# Altium footprint library InductorsFootprint.PcbLib: 6 footprints
Each footprint in its own frame and in the unit in brackets; x right, y up, seen from the top. Pads: shape width x height; smd on the part's side, far side on the other; paste and mask are expansions set on the pad; w line width, h text height; cw(c..) or ccw(c..) is an arc to the next point about the centre after c.
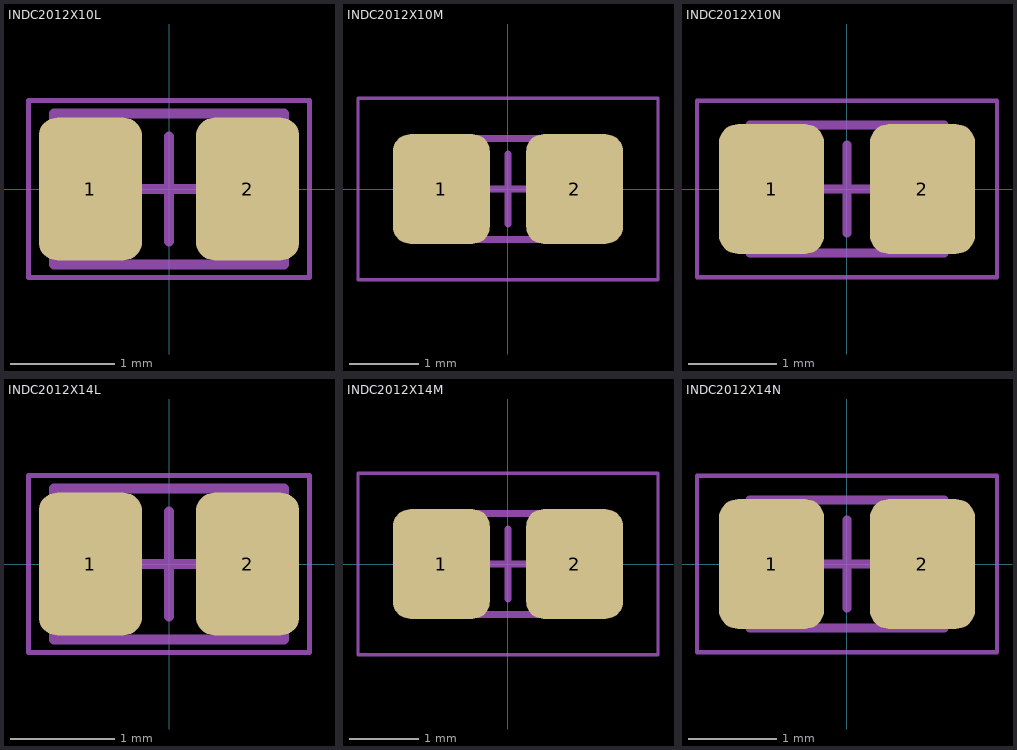
[diagram p0: the footprints below, top view; thin cyan lines are the x and y axes]

## INDC2012X10L [mm] "Chip Inductor 0805, 2-Leads, Body 2,00x1,25mm, IPC High Density"
height 1.05
pads (2):
  rrect35% 0.99x1.37 smd: 1(-0.755,0) 2(0.755,0)
Mechanical 13:
  lines w0.1: -1.1,-0.725 1.1,-0.725 1.1,0.725 -1.1,0.725 -1.1,-0.725
Mechanical 15:
  lines w0.05: -1.35,-0.85 1.35,-0.85 1.35,0.85 -1.35,0.85 -1.35,-0.85
  lines w0.1: -0.5,0 0.5,0 ; 0,-0.5 0,0.5
3D body "INDC2012X10L.step": height 1.05, standoff 0, extent -1.1,-0.725 1.1,0.725

## INDC2012X10M [mm] "Chip Inductor 0805, 2-Leads, Body 2,00x1,25mm, IPC Low Density"
height 1.05
pads (2):
  rrect35% 1.39x1.57 smd: 1(-0.955,0) 2(0.955,0)
Mechanical 13:
  lines w0.1: -1.1,-0.725 1.1,-0.725 1.1,0.725 -1.1,0.725 -1.1,-0.725
Mechanical 15:
  lines w0.05: -2.15,-1.3 2.15,-1.3 2.15,1.3 -2.15,1.3 -2.15,-1.3
  lines w0.1: -0.5,0 0.5,0 ; 0,-0.5 0,0.5
3D body "INDC2012X10M.step": height 1.05, standoff 0, extent -1.1,-0.725 1.1,0.725

## INDC2012X10N [mm] "Chip Inductor 0805, 2-Leads, Body 2,00x1,25mm, IPC Medium Density"
height 1.05
pads (2):
  rrect35% 1.19x1.47 smd: 1(-0.855,0) 2(0.855,0)
Mechanical 13:
  lines w0.1: -1.1,-0.725 -1.1,0.725 1.1,0.725 1.1,-0.725 -1.1,-0.725
Mechanical 15:
  lines w0.05: -1.7,-1 -1.7,1 1.7,1 1.7,-1 -1.7,-1
  lines w0.1: -0.5,0 0.5,0 ; 0,-0.5 0,0.5
3D body "INDC2012X10N.step": height 1.05, standoff 0, extent -1.1,-0.725 1.1,0.725

## INDC2012X14L [mm] "Chip Inductor 0805, 2-Leads, Body 2,00x1,25mm, IPC High Density"
height 1.45
pads (2):
  rrect35% 0.99x1.37 smd: 1(-0.755,0) 2(0.755,0)
Mechanical 13:
  lines w0.1: -1.1,-0.725 1.1,-0.725 1.1,0.725 -1.1,0.725 -1.1,-0.725
Mechanical 15:
  lines w0.05: -1.35,-0.85 1.35,-0.85 1.35,0.85 -1.35,0.85 -1.35,-0.85
  lines w0.1: -0.5,0 0.5,0 ; 0,-0.5 0,0.5
3D body "INDC2012X14L.step": height 1.45, standoff 0, extent -1.1,-0.725 1.1,0.725

## INDC2012X14M [mm] "Chip Inductor 0805, 2-Leads, Body 2,00x1,25mm, IPC Low Density"
height 1.45
pads (2):
  rrect35% 1.39x1.57 smd: 1(-0.955,0) 2(0.955,0)
Mechanical 13:
  lines w0.1: -1.1,-0.725 1.1,-0.725 1.1,0.725 -1.1,0.725 -1.1,-0.725
Mechanical 15:
  lines w0.05: -2.15,-1.3 2.15,-1.3 2.15,1.3 -2.15,1.3 -2.15,-1.3
  lines w0.1: -0.5,0 0.5,0 ; 0,-0.5 0,0.5
3D body "INDC2012X14M.step": height 1.45, standoff 0, extent -1.1,-0.725 1.1,0.725

## INDC2012X14N [mm] "Chip Inductor 0805, 2-Leads, Body 2,00x1,25mm, IPC Medium Density"
height 1.45
pads (2):
  rrect35% 1.19x1.47 smd: 1(-0.855,0) 2(0.855,0)
Mechanical 13:
  lines w0.1: -1.1,-0.725 1.1,-0.725 1.1,0.725 -1.1,0.725 -1.1,-0.725
Mechanical 15:
  lines w0.05: -1.7,-1 1.7,-1 1.7,1 -1.7,1 -1.7,-1
  lines w0.1: -0.5,0 0.5,0 ; 0,-0.5 0,0.5
3D body "INDC2012X14N.step": height 1.45, standoff 0, extent -1.1,-0.725 1.1,0.725